# EAGLE library part RGB_SMD_3W (library CEDTv79)
RGB SMD 3W(1W each)
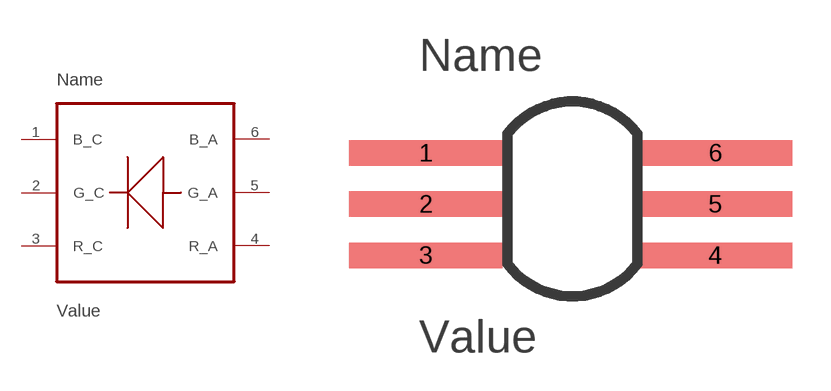
[diagram p74: symbol with the pads of RGB_SMD_6PIN; footprint RGB_SMD_6PIN]

Designator prefix -

## RGB_SMD_3W  [RGB_SMD_6PIN]
1  B_C  pas
2  G_C  pas
3  R_C  pas
4  R_A  pas
5  G_A  pas
6  B_A  pas

## Footprint RGB_SMD_6PIN (pad centres in mm)
smd 6 x 0.998: 1 -5.728,1.795; 2 -5.728,-0.205; 3 -5.728,-2.205; 4 5.59,-2.205; 5 5.59,-0.205; 6 5.59,1.795